# Altium footprint library SIP343W51P508L2205H198Q4B.PcbLib: 1 footprints
Each footprint in its own frame and in the unit in brackets; x right, y up, seen from the top. Pads: shape width x height; smd on the part's side, far side on the other; paste and mask are expansions set on the pad; w line width, h text height; cw(c..) or ccw(c..) is an arc to the next point about the centre after c.
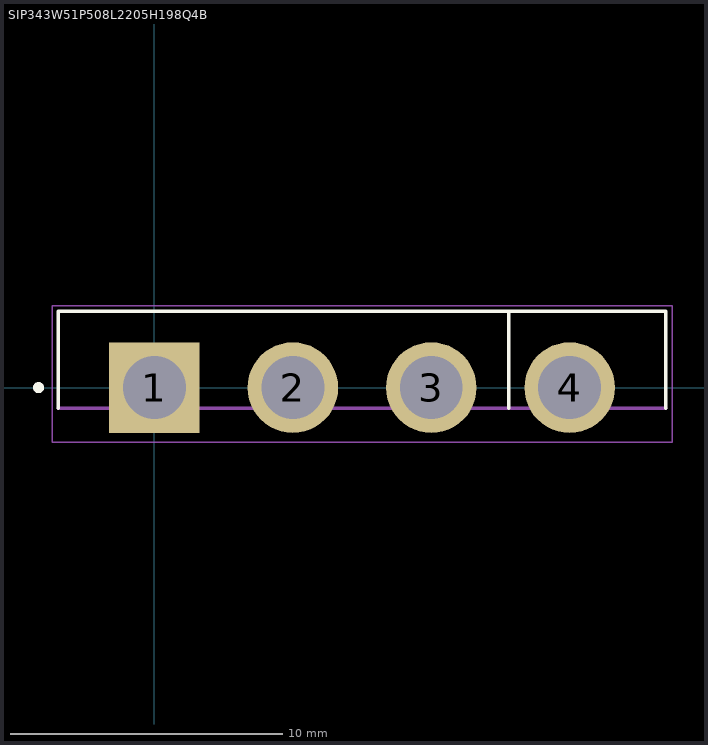
[diagram p0: the footprint, top view; thin cyan lines are the x and y axes]

## SIP343W51P508L2205H198Q4B [mm]
pads (4):
  rect 3.326x3.326 hole 2.31: 1(0,0)
  round 3.326 hole 2.31: 2(5.08,0) 3(10.16,0) 4(15.24,0)
Top Overlay:
  circle w0.2: c-4.25,0 r0.1
  lines w0.127: -3.53,-0.765 -3.53,2.795 13,2.795 ; 13,-0.765 13,2.795 ; 18.77,-0.765 18.77,2.795 13,2.795
Mechanical 13:
  lines w0.127: -3.53,-0.765 18.77,-0.765
Mechanical 15:
  lines w0.05: -3.75,-2 19,-2 19,3 -3.75,3 -3.75,-2
3D body "KBU6M.STEP": height 12.7, standoff -14.2, extent 0.27,-3.302 14.97,0.498